# Altium schematic symbol library RPSLib_Interface.SchLib: 12 symbols
Pins are listed as number, name and electrical type; pins without a type are passive.

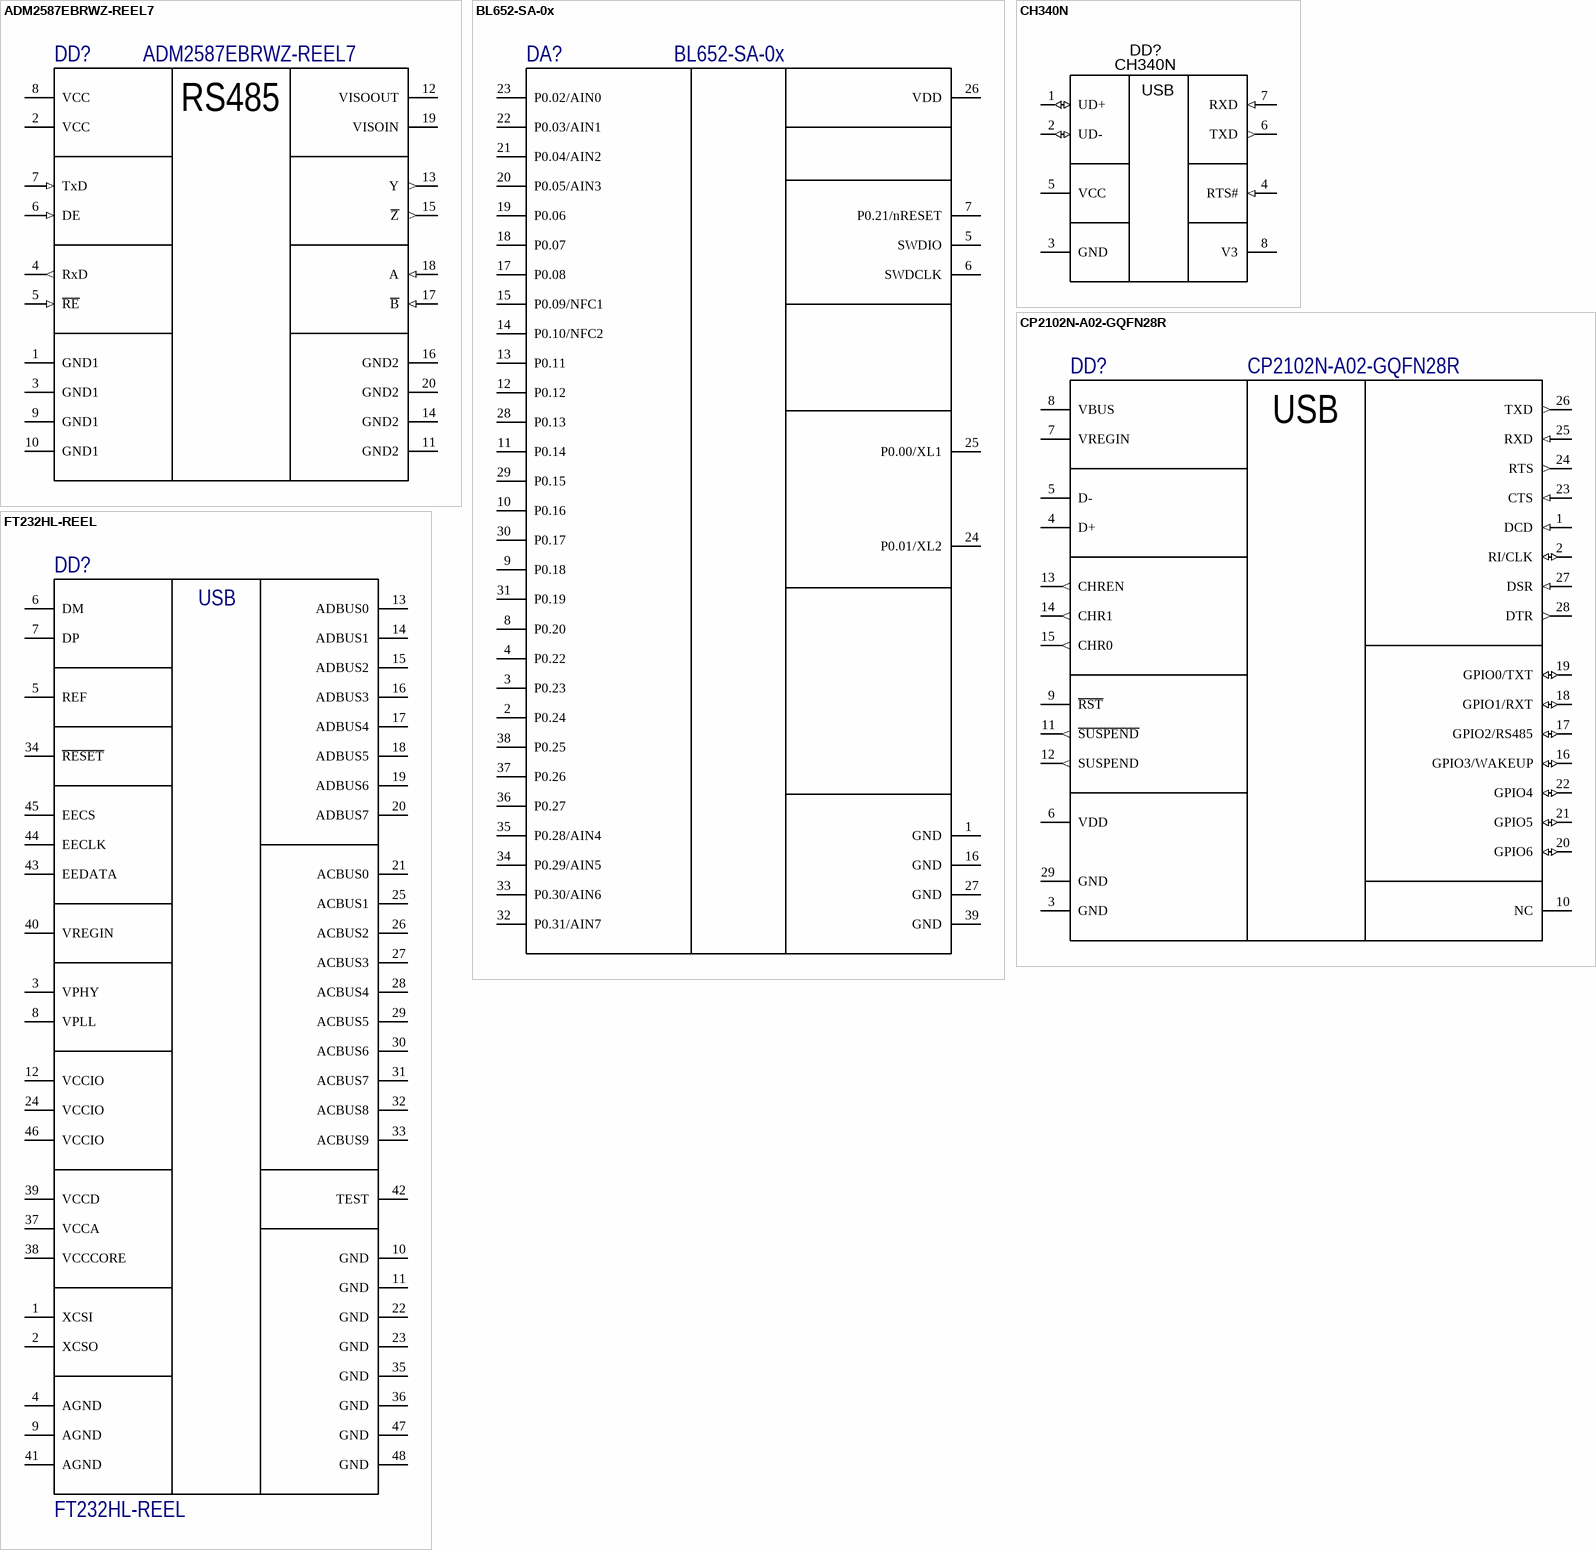
[diagram p0: symbols ADM2587EBRWZ-REEL7 to FT232HL-REEL]

## ADM2587EBRWZ-REEL7
designator DD?
Single Transmitter/Receiver RS-422/RS-485 20-Pin SOIC W T/R; Manufacturer: Analog Devices; Number of Transmitters: 1; Logic Function: Transceiver; Propagation Delay: 200ns; Min Supply Voltage: 3V; Max Supply Voltage: 5.5V; Nominal Supply Current: 125mA; Operating Supply Voltage: 3.3V; Data Rate: 500Kbps; Number of Channels: 3; Channel Type: Unidirectional; Isolated Power: Yes; Frequency: 500kHz; Isolation Voltage: 2.5kV; Simplex/Duplex: Full Duplex; Supplier 1: Digi-Key; Manufacturer Part Number: ADM2587EBRWZ-REEL7; RoHS: Yes; Category: RS-232 / RS-422 / RS-485 Interface ICs; Stock 1: 4755; Pricing 1: 400=10,67550 (USD); Mount: Surface Mount; Case/Package: SOIC; Number of Pins: 20; Min Operating Temperature: -40°C; Max Operating Temperature: 85°C; Packaging: Tape and Reel; Package Quantity: 1; Number of Receivers: 1; Operating Supply Current: 125mA; Number of Transceivers: 1; Series: isoPower®; Supply Current: 125mA; Length: 13mm; Width: 7.6mm; Height: 2.35mm; Lead Free: Contains Lead; RoHS Compliant: Yes; ComponentLink1URL: https://datasheet.ciiva.com/6635/adm2582e-2587e-6635760.pdf?src-supplier=Digi-Key; ComponentLink1Description: https://datasheet.ciiva.com/6635/adm2582e-2587e-6635760.pdf?src-supplier=Digi-Key; ComponentLink2URL: https://datasheet.ciiva.com/26833/adm2587ebrwz-reel7-26833961.pdf?src-supplier=IIIC; ComponentLink2Description: https://datasheet.ciiva.com/26833/adm2587ebrwz-reel7-26833961.pdf?src-supplier=IIIC; ComponentLink3URL: https://datasheet.ciiva.com/3028/adm2582e-2587e-3028953.pdf?src-supplier=Avnet; ComponentLink3Description: https://datasheet.ciiva.com/3028/adm2582e-2587e-3028953.pdf?src-supplier=Avnet; ComponentLink4URL: https://datasheet.ciiva.com/8201/adm2582e-2587e-8201002.pdf?src-supplier=Avnet; ComponentLink4Description: https://datasheet.ciiva.com/8201/adm2582e-2587e-8201002.pdf?src-supplier=Avnet; ComponentLink5URL: https://datasheet.ciiva.com/16641/adm2582e-2587e-16641854.pdf?src-supplier=Avnet+Europe; ComponentLink5Description: https://datasheet.ciiva.com/16641/adm2582e-2587e-16641854.pdf?src-supplier=Avnet+Europe; Supplier Part Number 1: 505-ADM2587EBRWZ-REEL7TR-ND
footprint SOP127P1030X265-20N (SOP, 20-Leads, Body 12,80x7,50mm, Pitch 1,27mm, IPC Medium Density)
pins: 1 GND1 (power), 2 VCC (power), 3 GND1 (power), 4 RxD (out), 5 ~{RE} (in), 6 DE (in), 7 TxD (in), 8 VCC (power), 9 GND1 (power), 10 GND1 (power), 11 GND2 (power), 12 VISOOUT (power), 13 Y (out), 14 GND2 (power), 15 ~{Z} (out), 16 GND2 (power), 17 ~{B} (in), 18 A (in), 19 VISOIN (power), 20 GND2 (power)
text: RS485

## BL652-SA-0x
designator DA?
RF TXRX MOD BLUETOOTH CHIP ANT; Manufacturer: Laird; Manufacturer Part Number: BL652-SA-01-T/R; РКД Наименование: *; Supplier 1: Digi-Key; RoHS: No; Category: RF Receivers, Transceivers; Stock 1: 12878; Pricing 1: 1=7,45000 (USD); Case/Package: Module; ComponentLink1URL: https://www.mouser.com/ds/2/223/Datasheet - BL652-963794.pdf?src-supplier=Mouser; ComponentLink1Description: https://www.mouser.com/ds/2/223/Datasheet - BL652-963794.pdf?src-supplier=Mouser; ComponentLink2URL: http://assets.lairdtech.com/home/brandworld/files/Datasheet%20-%20BL652.pdf?src-supplier=Digi-Key; ComponentLink2Description: http://assets.lairdtech.com/home/brandworld/files/Datasheet%20-%20BL652.pdf?src-supplier=Digi-Key; Supplier Part Number 1: BL652-SA-01-CT-ND
footprint BL652-Sx
pins: 1 GND, 2 P0.24, 3 P0.23, 4 P0.22, 5 SWDIO, 6 SWDCLK, 7 P0.21/nRESET, 8 P0.20, 9 P0.18, 10 P0.16, 11 P0.14, 12 P0.12, 13 P0.11, 14 P0.10/NFC2, 15 P0.09/NFC1, 16 GND, 17 P0.08, 18 P0.07, 19 P0.06, 20 P0.05/AIN3, 21 P0.04/AIN2, 22 P0.03/AIN1, 23 P0.02/AIN0, 24 P0.01/XL2, 25 P0.00/XL1, 26 VDD, 27 GND, 28 P0.13, 29 P0.15, 30 P0.17, 31 P0.19, 32 P0.31/AIN7, 33 P0.30/AIN6, 34 P0.29/AIN5, 35 P0.28/AIN4, 36 P0.27, 37 P0.26, 38 P0.25, 39 GND

## CH340N
designator DD?
USB-to-UART, USB2.0, 2 Mbps, 3...3.6V,  MSOP-10, -40...+85°C; Manufacturer: WCH; Manufacturer Part Number: CH340N; Package: SOIC-8; HelpURL: https://www.lcsc.com/product-detail/USB-ICs_WCH-Jiangsu-Qin-Heng-CH340N_C2977777.html
footprint SOIC127P600X175-8N (SOIC, 8-Leads, Body 4.90x3.90mm, Pitch 1.27mm, IPC Medium Density)
pins: 1 UD+ (io), 2 UD- (io), 3 GND (power), 4 RTS# (in), 5 VCC (power), 6 TXD (out), 7 RXD (in), 8 V3 (power)
text: USB

## CP2102N-A02-GQFN28R
designator DD?
IC Usb to Uart Bridge QFN28; Manufacturer: Silicon Labs; Supplier 1: Digi-Key; Manufacturer Part Number: CP2102N-A02-GQFN28R; RoHS: No; Stock 1: 6653; Pricing 1: 1=1,40000, 25=1,35160, 100=1,29950 (USD); Supplier Part Number 1: 336-5890-1-ND
footprint QFN50P500X500X80_HS-29N (QFN, 28-Leads, Body 5,00x5,00mm, Pitch 0,50mm, Thermal Pad 3,25x3,25mm, IPC Medium Density)
pins: 1 DCD (in), 2 RI/CLK (io), 3 GND (power), 4 D+, 5 D-, 6 VDD (power), 7 VREGIN (power), 8 VBUS, 9 ~{RST}, 10 NC, 11 ~{SUSPEND} (out), 12 SUSPEND (out), 13 CHREN (out), 14 CHR1 (out), 15 CHR0 (out), 16 GPIO3/WAKEUP (io), 17 GPIO2/RS485 (io), 18 GPIO1/RXT (io), 19 GPIO0/TXT (io), 20 GPIO6 (io), 21 GPIO5 (io), 22 GPIO4 (io), 23 CTS (in), 24 RTS (out), 25 RXD (in), 26 TXD (out), 27 DSR (in), 28 DTR (out), 29 GND (power)
text: USB

## FT232HL-REEL
designator DD?
IC HS USB TO UART/FIFO 48LQFP; Manufacturer: FTDI; Max Supply Voltage: 3.63V; Interface: RS-232,RS-422,RS-485,UART; Operating Supply Current: 24mA; Min Supply Voltage: 2.97V; Operating Supply Voltage: 3.3V; Number of Channels: 1; Nominal Supply Current: 60mA; Data Rate: 12Mbps; Supplier 1: Digi-Key; Manufacturer Part Number: FT232HL-REEL; Stock 1: 26419; Pricing 1: 1=4.25, 10=3.55, 100=3.1, 250=2.95, 500=2.85002 (USD); Mount: Surface Mount; Case/Package: LQFP; Number of Pins: 48; Weight: 0.006409oz; Min Operating Temperature: -40°C; Max Operating Temperature: 85°C; Packaging: Tape and Reel; Package Quantity: 1; Length: 7mm; Height: 1.4mm; Width: 7mm; Lead Free: Lead Free; REACH SVHC: No SVHC; ComponentLink1URL: http://www.ftdichip.com/Support/Documents/DataSheets/ICs/DS_FT232H.pdf; ComponentLink1Description: http://www.ftdichip.com/Support/Documents/DataSheets/ICs/DS_FT232H.pdf; ComponentLink2URL: http://www.farnell.com/datasheets/1913746.pdf; ComponentLink2Description: http://www.farnell.com/datasheets/1913746.pdf; ComponentLink3URL: http://www.mouser.com/ds/2/163/DS_FT232H-11324.pdf; ComponentLink3Description: http://www.mouser.com/ds/2/163/DS_FT232H-11324.pdf; Supplier Part Number 1: 768-1101-1-ND
footprint TSQFP50P900X900X160-48N (TSQFP, 48-Leads, Body 7,00x7,00mm, Pitch 0,50mm, IPC Medium Density)
pins: 1 XCSI, 2 XCSO, 3 VPHY, 4 AGND, 5 REF, 6 DM, 7 DP, 8 VPLL, 9 AGND, 10 GND, 11 GND, 12 VCCIO, 13 ADBUS0, 14 ADBUS1, 15 ADBUS2, 16 ADBUS3, 17 ADBUS4, 18 ADBUS5, 19 ADBUS6, 20 ADBUS7, 21 ACBUS0, 22 GND, 23 GND, 24 VCCIO, 25 ACBUS1, 26 ACBUS2, 27 ACBUS3, 28 ACBUS4, 29 ACBUS5, 30 ACBUS6, 31 ACBUS7, 32 ACBUS8, 33 ACBUS9, 34 ~{RESET}, 35 GND, 36 GND, 37 VCCA, 38 VCCCORE, 39 VCCD, 40 VREGIN, 41 AGND, 42 TEST, 43 EEDATA, 44 EECLK, 45 EECS, 46 VCCIO, 47 GND, 48 GND
text: USB

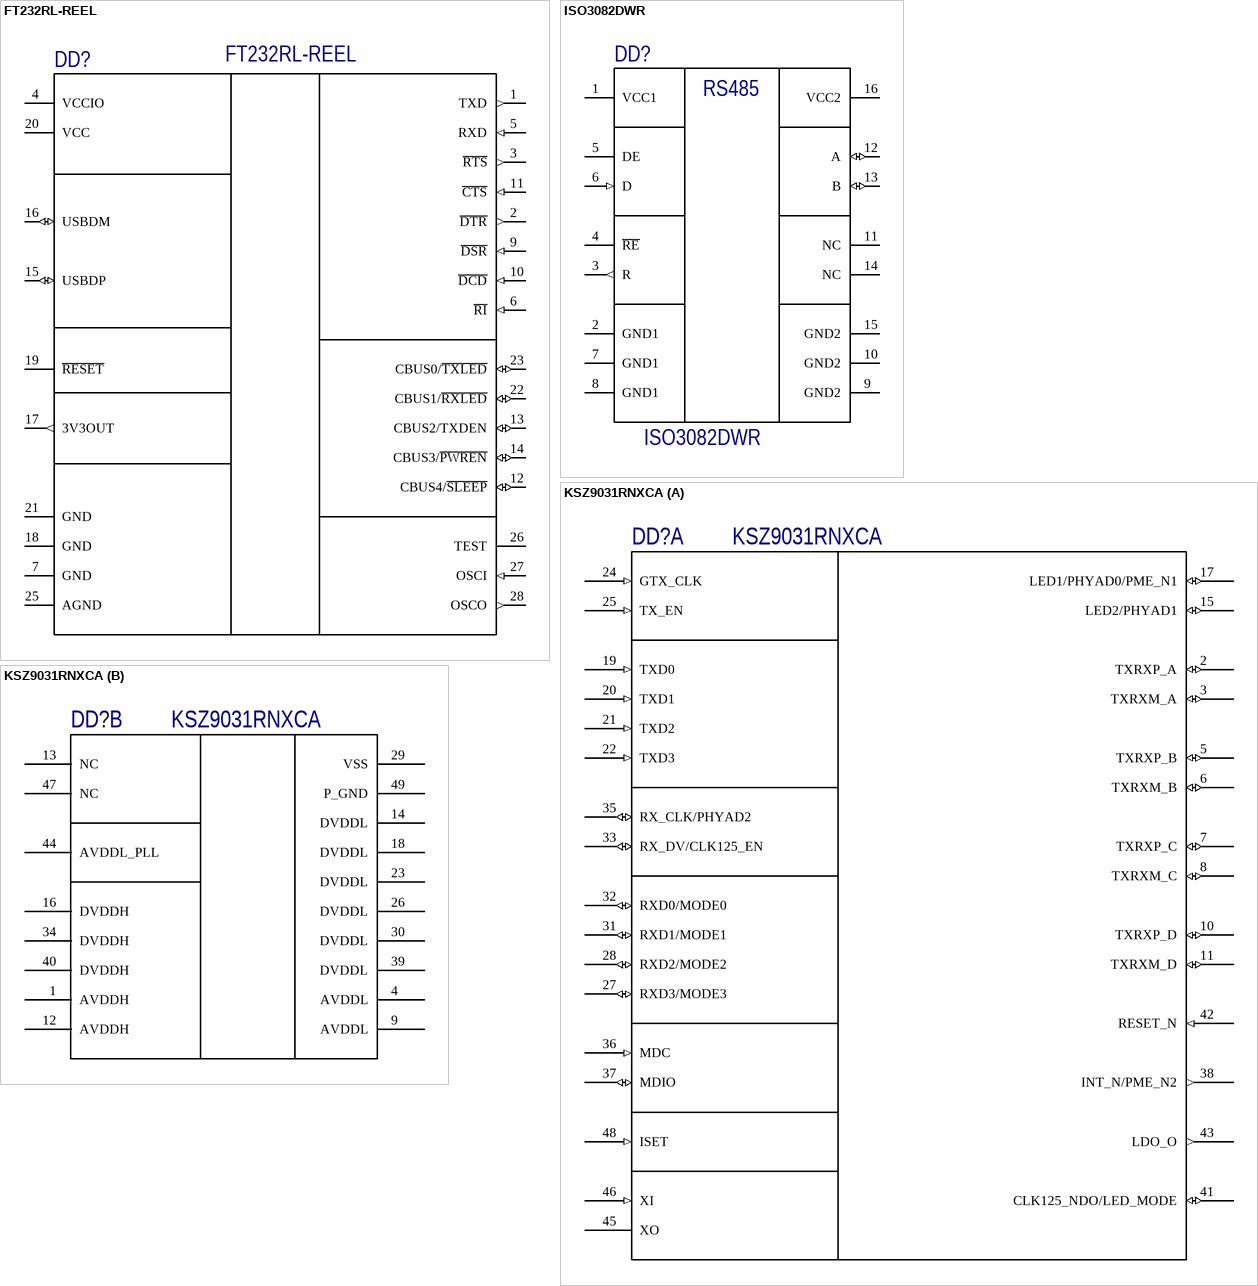
[diagram p1: symbols FT232RL-REEL to KSZ9031RNXCA]

## FT232RL-REEL
designator DD?
FTDI - FT232RL-REEL - Interface Bridges, USB to UART, 1.8 V, 5.25 V, SSOP, 28 Pins, -40 °C; Interface: UART,RS-232,RS-422,RS-485; Number of Channels: 1; Data Rate: 12Mbps; Max Supply Voltage: 5.25V; Min Supply Voltage: 3.3V; Operating Supply Current: 15mA; Voltage: 5V; Supplier 1: Digi-Key; Manufacturer: FTDI; Manufacturer Part Number: FT232RL-REEL; RoHS: Yes; Category: Interface ICs; Stock 1: 103370; Pricing 1: 1=4,50000, 10=4,05000, 50=3,85000, 100=3,65000, 250=3,25000, 500=2,85002, 1000=2,65000 (USD); Mount: Surface Mount; Case/Package: SSOP; Number of Pins: 28; Weight: 0.080001oz; Min Operating Temperature: -40°C; Max Operating Temperature: 85°C; Packaging: Tape and Reel; Package Quantity: 2000; Series: USBmadeEZ-UART; Number of Transceivers: 1; Length: 10.2mm; Width: 5.3mm; Height: 1.75mm; Radiation Hardening: No; REACH SVHC: No SVHC; Lead Free: Lead Free; RoHS Compliant: Yes; ComponentLink1URL: https://datasheet.ciiva.com/34304/2161019-34304054.pdf?src-supplier=Jameco; ComponentLink1Description: https://datasheet.ciiva.com/34304/2161019-34304054.pdf?src-supplier=Jameco; ComponentLink2URL: https://datasheet.ciiva.com/4787/ds-ft232r-11534-4787658.pdf?src-supplier=Mouser; ComponentLink2Description: https://datasheet.ciiva.com/4787/ds-ft232r-11534-4787658.pdf?src-supplier=Mouser; ComponentLink3URL: https://datasheet.ciiva.com/26841/ft232rl-reel-26841080.pdf?src-supplier=IIIC; ComponentLink3Description: https://datasheet.ciiva.com/26841/ft232rl-reel-26841080.pdf?src-supplier=IIIC; ComponentLink4URL: https://datasheet.ciiva.com/1787/ds-ft232r-1787047.pdf?src-supplier=Digi-Key; ComponentLink4Description: https://datasheet.ciiva.com/1787/ds-ft232r-1787047.pdf?src-supplier=Digi-Key; ComponentLink5URL: https://datasheet.ciiva.com/1787/ds-ft232r-1787048.pdf?src-supplier=Digi-Key; ComponentLink5Description: https://datasheet.ciiva.com/1787/ds-ft232r-1787048.pdf?src-supplier=Digi-Key; ComponentLink6URL: https://datasheet.ciiva.com/1787/ds-ft232r-1787049.pdf?src-supplier=Digi-Key; ComponentLink6Description: https://datasheet.ciiva.com/1787/ds-ft232r-1787049.pdf?src-supplier=Digi-Key; ComponentLink7URL: https://datasheet.ciiva.com/15150/getdatasheetpartid-643207-15150506.pdf?src-supplier=Verical; ComponentLink7Description: https://datasheet.ciiva.com/15150/getdatasheetpartid-643207-15150506.pdf?src-supplier=Verical; ComponentLink8URL: https://datasheet.ciiva.com/16200/ds-ft232r-16200652.pdf?src-supplier=Future+Electronics; ComponentLink8Description: https://datasheet.ciiva.com/16200/ds-ft232r-16200652.pdf?src-supplier=Future+Electronics; Supplier Part Number 1: 768-1007-1-ND
footprint SOP65P780X200-28N (SOP, 28-Leads, Body 10,28x5,30mm, Pitch 0,65mm, IPC Medium Density)
pins: 1 TXD (out), 2 ~{DTR} (out), 3 ~{RTS} (out), 4 VCCIO, 5 RXD (in), 6 ~{RI} (in), 7 GND (power), 9 ~{DSR} (in), 10 ~{DCD} (in), 11 ~{CTS} (in), 12 CBUS4/~{SLEEP} (io), 13 CBUS2/TXDEN (io), 14 CBUS3/~{PWREN} (io), 15 USBDP (io), 16 USBDM (io), 17 3V3OUT (out), 18 GND (power), 19 ~{RESET}, 20 VCC (power), 21 GND (power), 22 CBUS1/~{RXLED} (io), 23 CBUS0/~{TXLED} (io), 25 AGND (power), 26 TEST, 27 OSCI (in), 28 OSCO (out)

## ISO3082DWR
designator DD?
DG ISO 2.5KV RS422/RS485 16SOIC; Manufacturer: Texas Instruments; Data Rate: 200Kbps; Number of Drivers: 1; Max Supply Voltage: 5.5V; Min Supply Voltage: 3.15V; Nominal Supply Current: 15mA; Logic Function: Receiver; Simplex/Duplex: Half Duplex; Working Voltage: 560V; Number of Channels: 3; Isolation Voltage: 4kV; Propagation Delay: 0.7us; Max Power Dissipation: 220mW; Channel Type: Unidirectional; Isolated Power: No; Supplier 1: Digi-Key; Manufacturer Part Number: ISO3082DWR; RoHS: Yes; Category: Interface ICs; Stock 1: 8275; Pricing 1: 1=6,18000, 10=5,55000, 25=5,24720, 100=4,31420, 250=3,87112, 500=3,73120, 1000=3,10156 (USD); Case/Package: SOIC; Number of Pins: 16; Min Operating Temperature: -40°C; Max Operating Temperature: 85°C; Packaging: Tape and Reel; Number of Transmitters: 1; Number of Receivers: 1; Package Quantity: 2000; Number of Transceivers: 1; Supply Current: 15mA; Series: -; Number of Input Lines: 1; Number of Output Lines: 1; Power Dissipation: 220mW; Lead Free: Lead Free; RoHS Compliant: Yes; REACH SVHC: No SVHC; ComponentLink1URL: http://components.arrow.com/part/dataview/0323_00129279?src-supplier=Arrow+Europe; ComponentLink1Description: http://components.arrow.com/part/dataview/0323_00129279?src-supplier=Arrow+Europe; ComponentLink2URL: http://components.arrow.com/part/dataview/45775003S8286054N7713?src-supplier=Arrow+Electronics; ComponentLink2Description: http://components.arrow.com/part/dataview/45775003S8286054N7713?src-supplier=Arrow+Electronics; ComponentLink3URL: http://www.ti.com/general/docs/lit/getliterature.tsp?genericPartNumber=ISO3088&&fileType=pdf&src-supplier=Avnet; ComponentLink3Description: http://www.ti.com/general/docs/lit/getliterature.tsp?genericPartNumber=ISO3088&&fileType=pdf&src-supplier=Avnet; ComponentLink4URL: http://www.ti.com/lit/gpn/iso3082?src-supplier=Mouser; ComponentLink4Description: http://www.ti.com/lit/gpn/iso3082?src-supplier=Mouser; ComponentLink5URL: http://www.ti.com/lit/ds/symlink/iso3082.pdf?src-supplier=Newark; ComponentLink5Description: http://www.ti.com/lit/ds/symlink/iso3082.pdf?src-supplier=Newark; ComponentLink6URL: http://www.ti.com/lit/ds/symlink/iso3082.pdf?src-supplier=Digi-Key; ComponentLink6Description: http://www.ti.com/lit/ds/symlink/iso3082.pdf?src-supplier=Digi-Key; ComponentLink7URL: http://www.ti.com/general/docs/lit/getliterature.tsp?genericPartNumber=ISO3082&&fileType=pdf&src-supplier=Element14; ComponentLink7Description: http://www.ti.com/general/docs/lit/getliterature.tsp?genericPartNumber=ISO3082&&fileType=pdf&src-supplier=Element14; Supplier Part Number 1: 296-37891-1-ND
footprint SOIC127P1030X265-16N (SOIC, 16-Leads, Body 10,30x7,50mm, Pitch 1,27mm, IPC Medium Density)
pins: 1 VCC1, 2 GND1, 3 R (out), 4 ~{RE}, 5 DE, 6 D (in), 7 GND1, 8 GND1, 9 GND2, 10 GND2, 11 NC, 12 A (io), 13 B (io), 14 NC, 15 GND2, 16 VCC2
text: RS485

## KSZ9031RNXCA
designator DD?
IC TXRX ETHERNET 48QFN; Manufacturer: Microchip; Supplier 1: Digi-Key; Manufacturer Part Number: KSZ9031RNXCA; RoHS: Yes; Category: Ethernet Interface ICs; Stock 1: 1696; Pricing 1: 1=5,51000, 10=4,95000, 25=4,68000, 100=3,84800 (USD); ComponentLink1URL: https://datasheet.ciiva.com/12289/nph-46-12289944.pdf?src-supplier=Mouser; ComponentLink1Description: https://datasheet.ciiva.com/12289/nph-46-12289944.pdf?src-supplier=Mouser; ComponentLink2URL: https://datasheet.ciiva.com/6634/nph-46-6634949.pdf?src-supplier=Digi-Key; ComponentLink2Description: https://datasheet.ciiva.com/6634/nph-46-6634949.pdf?src-supplier=Digi-Key; ComponentLink3URL: https://datasheet.ciiva.com/15149/getdatasheetpartid-564369-15149356.pdf?src-supplier=Verical; ComponentLink3Description: https://datasheet.ciiva.com/15149/getdatasheetpartid-564369-15149356.pdf?src-supplier=Verical; ComponentLink4URL: https://datasheet.ciiva.com/36857/ksz9031rnx-36857005.pdf?src-supplier=Element14; ComponentLink4Description: https://datasheet.ciiva.com/36857/ksz9031rnx-36857005.pdf?src-supplier=Element14; ComponentLink5URL: https://datasheet.ciiva.com/16495/nph-46-16495758.pdf?src-supplier=Future+Electronics; ComponentLink5Description: https://datasheet.ciiva.com/16495/nph-46-16495758.pdf?src-supplier=Future+Electronics; Supplier Part Number 1: 576-4040-ND
part A pins: 2 TXRXP_A (io) "Media Depend Interface[0], Positive signal of differential pair", 3 TXRXM_A (io) "Media Depend Interface[0], Negative signal of differential pair", 5 TXRXP_B (io) "Media Depend Interface[1], Positive signal of differential pair", 6 TXRXM_B (io) "Media Depend Interface[1], Negative signal of differential pair", 7 TXRXP_C (io) "Media Depend Interface[2], Positive signal of differential pair", 8 TXRXM_C (io) "Media Depend Interface[2], Negative signal of differential pair", 10 TXRXP_D (io) "Media Depend Interface[3], Positive signal of differential pair", 11 TXRXM_D (io) "Media Depend Interface[3], Negative signal of differential pair", 15 LED2/PHYAD1 (io), 17 LED1/PHYAD0/PME_N1 (io), 19 TXD0 (in) "RGMII mode: RGMII TD0 (Transmit Data 0) input", 20 TXD1 (in) "RGMII mode: RGMII TD1 (Transmit Data 1) input", 21 TXD2 (in) "RGMII mode: RGMII TD2 (Transmit Data 2) input", 22 TXD3 (in) "RGMII mode: RGMII TD3 (Transmit Data 3) input", 24 GTX_CLK (in) "RGMII mode: RGMII TXC (Transmit Reference Clock) input", 25 TX_EN (in) "RGMII mode: RGMII TX_CTL (Transmit Control) input", 27 RXD3/MODE3 (io), 28 RXD2/MODE2 (io), 31 RXD1/MODE1 (io), 32 RXD0/MODE0 (io), 33 RX_DV/CLK125_EN (io), 35 RX_CLK/PHYAD2 (io), 36 MDC (in) "Management data clock input, This pin is the input reference clock for MDIO (Pin 37).", 37 MDIO (io) "Management data input/output, This pin is synchronous to MDC (Pin 36) and requires an external pull-up resistor to DVDDH (Digital VDD_I/O) in a range from 1.0 kOhm to 4.7 kOhm.", 38 INT_N/PME_N2 (out), 41 CLK125_NDO/LED_MODE (io), 42 RESET_N (in) "Chip reset (active low).", 43 LDO_O (out) "On chip 1.2 V LDO controller output", 45 XO "25 MHZ crystal feedback this pin is a no connect if an oscillator or external clock source is used.", 46 XI (in) "Crystal / Oscillator / External Clock input 25 MHz +/-50 ppm tolerance.", 48 ISET (in) "Set the transmit output level Connect a 12.1 kOhm 1% resistor to ground on this pin."
part B pins: 1 AVDDH (power) "Analog VDD.", 4 AVDDL (power) "1.2 V Analog VDD.", 9 AVDDL (power) "1.2 V Analog VDD.", 12 AVDDH (power) "Analog VDD.", 13 NC "No connect.", 14 DVDDL (power) "1.2 V Digital VDD.", 16 DVDDH (power) "3.3 V, 2.5 V, or 1.8 V digital VDD_I/O.", 18 DVDDL (power) "1.2 V Digital VDD.", 23 DVDDL (power) "1.2 V Digital VDD.", 26 DVDDL (power) "1.2 V Digital VDD.", 29 VSS (power) "Digital ground", 30 DVDDL (power) "1.2 V Digital VDD.", 34 DVDDH (power) "3.3 V, 2.5 V, or 1.8 V digital VDD_I/O.", 39 DVDDL (power) "1.2 V Digital VDD.", 40 DVDDH (power) "3.3 V, 2.5 V, or 1.8 V digital VDD_I/O.", 44 AVDDL_PLL (power) "1.2 V Analog VDD for PLL.", 47 NC "No connect.", 49 P_GND (power) "Exposed paddle on bottom of chip Connect P_GND to ground."

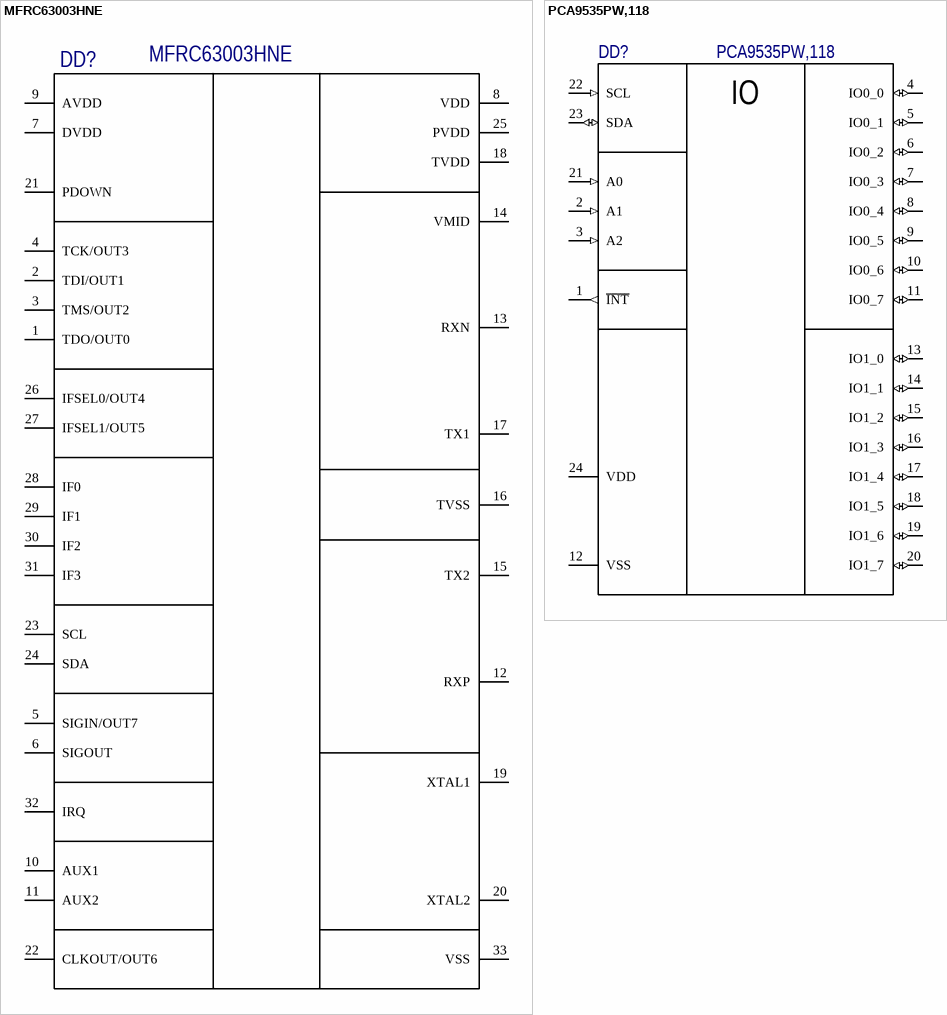
[diagram p2: symbols MFRC63003HNE to PCA9535PW,118]

## MFRC63003HNE
designator DD?
IC RFID TRANSP 13.56MHZ 32HVQFN; Manufacturer: NXP Semiconductors; Supplier 1: Digi-Key; Stock 1: 543; Pricing 1: 1=5.04, 10=4.522, 25=4.2752, 490=3.515, 980=3.154, 1470=2.66 (USD); Supplier Part Number 1: 568-13700-ND; Manufacturer Part Number: MFRC63003HNE
footprint QFN50P500X500X100_HS-33N_MFRC (QFN, 32-Leads, Body 5,00x5,00mm, Pitch 0,50mm, Thermal Pad 3,10x3,10mm, IPC Medium Density)
pins: 1 TDO/OUT0, 2 TDI/OUT1, 3 TMS/OUT2, 4 TCK/OUT3, 5 SIGIN/OUT7, 6 SIGOUT, 7 DVDD, 8 VDD, 9 AVDD, 10 AUX1, 11 AUX2, 12 RXP, 13 RXN, 14 VMID, 15 TX2, 16 TVSS, 17 TX1, 18 TVDD, 19 XTAL1, 20 XTAL2, 21 PDOWN, 22 CLKOUT/OUT6, 23 SCL, 24 SDA, 25 PVDD, 26 IFSEL0/OUT4, 27 IFSEL1/OUT5, 28 IF0, 29 IF1, 30 IF2, 31 IF3, 32 IRQ, 33 VSS

## PCA9535PW,118
designator DD?
PCA9535: 5.5V 160mA 400 kHz 16-bit I2C-bus and SMBus Low Power I/O Port-TSSOP-24; Manufacturer: NXP Semiconductors; Interface: I2C,Serial,SMBus; Output Current: 50mA; Number of I/Os: 16; Max Power Dissipation: 200mW; Max Frequency: 400kHz; Output Type: PUSH-PULL; Supplier 1: LCSC; Manufacturer Part Number: PCA9535PW,118; RoHS: Yes; Category: Interface ICs; Mount: Surface Mount; Case/Package: TSSOP; Number of Pins: 24; Weight: 0.007478oz; Min Operating Temperature: -40°C; Max Operating Temperature: 85°C; Packaging: Tape and Reel; Package Quantity: 2500; Operating Supply Voltage: 5.5V; Nominal Supply Current: 160mA; Frequency: 400kHz; Series: -; Supply Voltage-Nom: 5.5V; Supply Current: 160mA; Lead Free: Lead Free; RoHS Compliant: Yes; ComponentLink1URL: https://datasheet.ciiva.com/18624/pca9535-pca9535c-18624631.pdf?src-supplier=Digi-Key; ComponentLink1Description: https://datasheet.ciiva.com/18624/pca9535-pca9535c-18624631.pdf?src-supplier=Digi-Key; ComponentLink2URL: https://datasheet.ciiva.com/18624/pca9535-pca9535c-18624629.pdf?src-supplier=Digi-Key; ComponentLink2Description: https://datasheet.ciiva.com/18624/pca9535-pca9535c-18624629.pdf?src-supplier=Digi-Key; ComponentLink3URL: https://datasheet.ciiva.com/18624/pca9535-pca9535c-18624632.pdf?src-supplier=Digi-Key; ComponentLink3Description: https://datasheet.ciiva.com/18624/pca9535-pca9535c-18624632.pdf?src-supplier=Digi-Key; ComponentLink4URL: https://datasheet.ciiva.com/16394/pca9535-pca9535c-16394966.pdf?src-supplier=Future+Electronics; ComponentLink4Description: https://datasheet.ciiva.com/16394/pca9535-pca9535c-16394966.pdf?src-supplier=Future+Electronics; ComponentLink5URL: https://datasheet.ciiva.com/3149/pca9535-pca9535c-3149705.pdf?src-supplier=Avnet; ComponentLink5Description: https://datasheet.ciiva.com/3149/pca9535-pca9535c-3149705.pdf?src-supplier=Avnet; Supplier Part Number 1: C255606
footprint TSOP65P640X110-24N (TSOP, 24-Leads, Body 7,80x4,40mm, Pitch 0,65mm, IPC Medium Density)
pins: 1 ~{INT} (out), 2 A1 (in), 3 A2 (in), 4 IO0_0 (io), 5 IO0_1 (io), 6 IO0_2 (io), 7 IO0_3 (io), 8 IO0_4 (io), 9 IO0_5 (io), 10 IO0_6 (io), 11 IO0_7 (io), 12 VSS (power), 13 IO1_0 (io), 14 IO1_1 (io), 15 IO1_2 (io), 16 IO1_3 (io), 17 IO1_4 (io), 18 IO1_5 (io), 19 IO1_6 (io), 20 IO1_7 (io), 21 A0 (in), 22 SCL (in), 23 SDA (io), 24 VDD (power)
text: IO

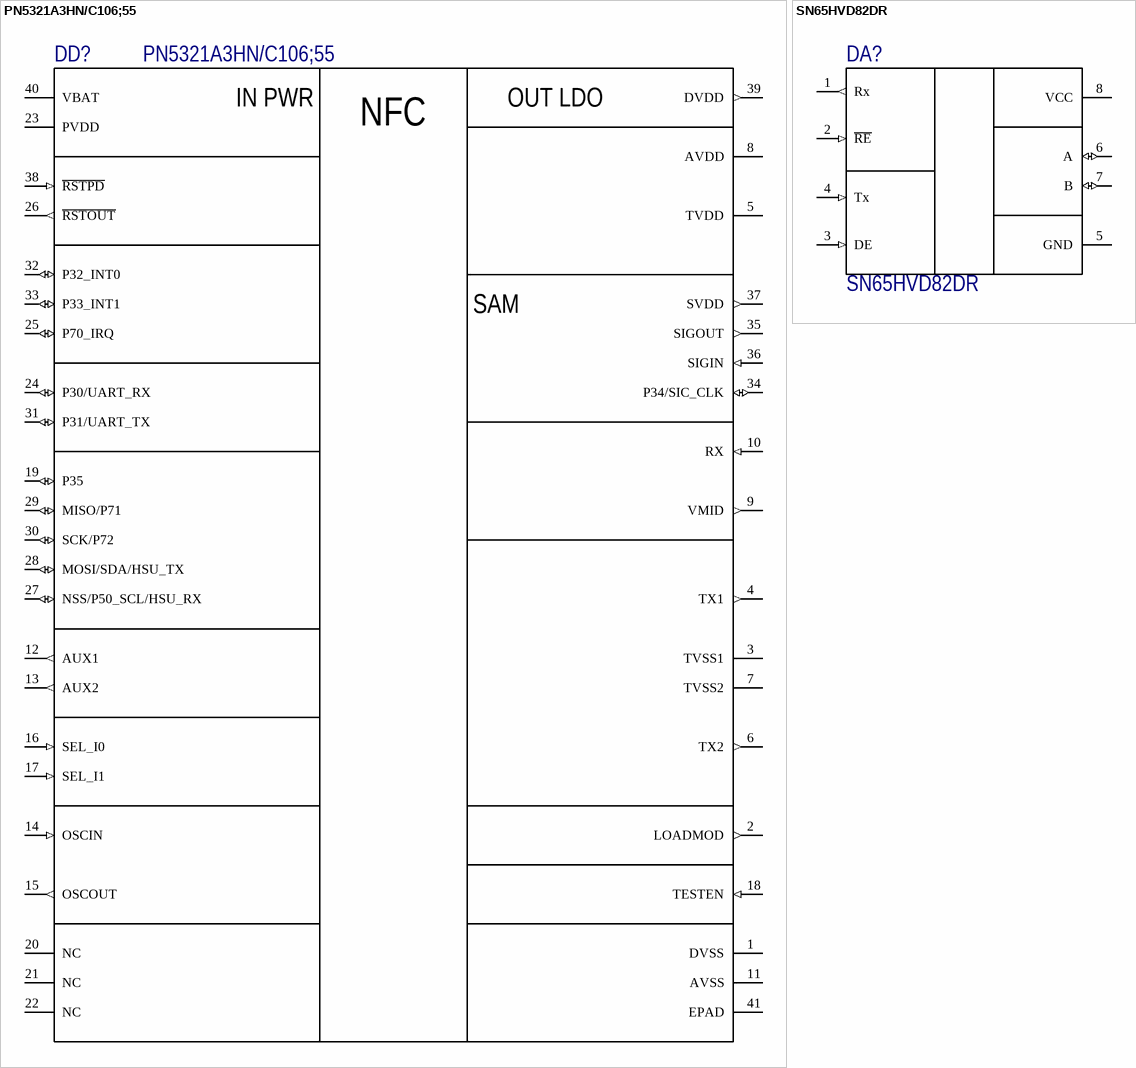
[diagram p3: symbols PN5321A3HN/C106;55 to SN65HVD82DR]

## PN5321A3HN/C106;55
designator DD?
PN532 Series 5.5 V 13.56 MHz Near Field Communication (NFC) Controller -HVQFN-40; Manufacturer: NXP Semiconductors; Min Supply Voltage: 2.7V; Max Supply Voltage: 5.5V; Operating Supply Current: 12uA; Supplier 1: Digi-Key; Manufacturer Part Number: PN5321A3HN/C106;55; RoHS: Yes; Category: RF Semiconductors and Devices; Stock 1: 673; Pricing 1: 1=15,82000 (USD); Mount: Surface Mount; Case/Package: QFN; Number of Pins: 40; Contact Plating: Gold; Weight: 0.004138oz; Min Operating Temperature: -25°C; Max Operating Temperature: 85°C; Frequency: 13.56MHz; Packaging: Tray; Package Quantity: 490; Max Frequency: 13.56MHz; Operating Frequency: 13.56 MHz; Radiation Hardening: No; Lead Free: Lead Free; REACH SVHC: No SVHC; ComponentLink1URL: https://datasheet.ciiva.com/1577/1751691-1577121.pdf?src-supplier=Farnell; ComponentLink1Description: https://datasheet.ciiva.com/1577/1751691-1577121.pdf?src-supplier=Farnell; ComponentLink2URL: https://datasheet.ciiva.com/1172/1391932-1172875.pdf?src-supplier=Newark; ComponentLink2Description: https://datasheet.ciiva.com/1172/1391932-1172875.pdf?src-supplier=Newark; ComponentLink3URL: https://datasheet.ciiva.com/12073/75016623-2868-12073795.pdf?src-supplier=Mouser; ComponentLink3Description: https://datasheet.ciiva.com/12073/75016623-2868-12073795.pdf?src-supplier=Mouser; ComponentLink4URL: https://datasheet.ciiva.com/22617/1751691-22617799.pdf?src-supplier=Element14; ComponentLink4Description: https://datasheet.ciiva.com/22617/1751691-22617799.pdf?src-supplier=Element14; Supplier Part Number 1: 568-8600-ND
footprint QFN50P600X600X100_HS-41N-PN532 (QFN, 40-Leads, Body 6,00x6,00mm, Pitch 0,50mm, Thermal Pad 4,10x4,10mm, IPC Medium Density)
pins: 1 DVSS (power), 2 LOADMOD (out), 3 TVSS1 (power), 4 TX1 (out), 5 TVDD (power), 6 TX2 (out), 7 TVSS2 (power), 8 AVDD (power), 9 VMID (out), 10 RX (in), 11 AVSS (power), 12 AUX1 (out), 13 AUX2 (out), 14 OSCIN (in), 15 OSCOUT (out), 16 SEL_I0 (in), 17 SEL_I1 (in), 18 TESTEN (in), 19 P35 (io), 20 NC, 21 NC, 22 NC, 23 PVDD (power), 24 P30/UART_RX (io), 25 P70_IRQ (io), 26 ~{RSTOUT} (out), 27 NSS/P50_SCL/HSU_RX (io), 28 MOSI/SDA/HSU_TX (io), 29 MISO/P71 (io), 30 SCK/P72 (io), 31 P31/UART_TX (io), 32 P32_INT0 (io), 33 P33_INT1 (io), 34 P34/SIC_CLK (io), 35 SIGOUT (out), 36 SIGIN (in), 37 SVDD (out), 38 ~{RSTPD} (in), 39 DVDD (out), 40 VBAT (power), 41 EPAD (power)
text: IN PWR; OUT LDO; NFC; SAM

## SN65HVD82DR
designator DA?
Texas Instruments SN65HVD82DR Linear IC; Data Rate: 250Kbps; Number of Receivers: 1; Operating Supply Voltage: 5V; Min Supply Voltage: 4.5V; Max Supply Voltage: 5.5V; Operating Supply Current: 900uA; Logic Function: Transceiver; Simplex/Duplex: Half Duplex; Supplier 1: Digi-Key; Manufacturer: Texas Instruments; Manufacturer Part Number: SN65HVD82DR; RoHS: Yes; Category: Interface ICs; Stock 1: 14389; Pricing 1: 1=2,34000, 10=2,10100, 25=1,98240, 100=1,58580, 250=1,38752, 500=1,34790, 1000=1,07039 (USD); Mount: Surface Mount; Case/Package: SOIC; Number of Pins: 8; Weight: 0.002677oz; Min Operating Temperature: -40°C; Max Operating Temperature: 85°C; Number of Transmitters: 1; Packaging: Tape and Reel; Package Quantity: 1; Number of Drivers: 1; Number of Transceivers: 1; Series: -; Lead Free: Lead Free; RoHS Compliant: Yes; ComponentLink1URL: https://datasheet.ciiva.com/12097/sllsed6-213551-12097747.pdf?src-supplier=Mouser; ComponentLink1Description: https://datasheet.ciiva.com/12097/sllsed6-213551-12097747.pdf?src-supplier=Mouser; ComponentLink2URL: https://datasheet.ciiva.com/41461/001187607-da-01-en-ic-txrx-robust-rs-sn65hvd82dr-soic-8-tid-41461130.pdf?src-supplier=Conrad; ComponentLink2Description: https://datasheet.ciiva.com/41461/001187607-da-01-en-ic-txrx-robust-rs-sn65hvd82dr-soic-8-tid-41461130.pdf?src-supplier=Conrad; ComponentLink3URL: https://datasheet.ciiva.com/6633/sn65hvd82-6633365.pdf?src-supplier=Digi-Key; ComponentLink3Description: https://datasheet.ciiva.com/6633/sn65hvd82-6633365.pdf?src-supplier=Digi-Key; Supplier Part Number 1: 296-35043-1-ND
footprint SOIC127P600X175-8N (SOIC, 8-Leads, Body 4.90x3.90mm, Pitch 1.27mm, IPC Medium Density)
pins: 1 Rx (out), 2 ~{RE} (in), 3 DE (in), 4 Tx (in), 5 GND (power), 6 A (io), 7 B (io), 8 VCC (power)